# Altium footprint library PJ-072C-SMT-TR.PcbLib: 1 footprints
Each footprint in its own frame and in the unit in brackets; x right, y up, seen from the top. Pads: shape width x height; smd on the part's side, far side on the other; paste and mask are expansions set on the pad; w line width, h text height; cw(c..) or ccw(c..) is an arc to the next point about the centre after c.
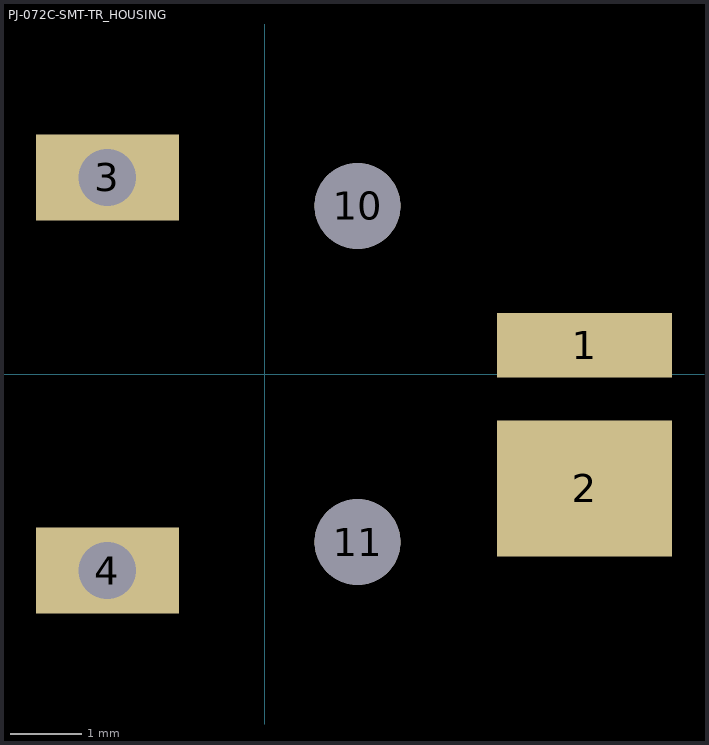
[diagram p0: the footprint, top view; thin cyan lines are the x and y axes]

## PJ-072C-SMT-TR_HOUSING [mm]
pads (6):
  rect 2.45x0.9 smd: 1(4.475,0.4)
  rect 2.45x1.9 smd: 2(4.475,-1.6)
  rect 2x1.2 hole 0.8 square: 3(-2.2,2.75) 4(-2.2,-2.75)
  round 1.2 hole 1.2 unplated paste+0 mask+0: 10(1.3,2.35) 11(1.3,-2.35)
3D body "pj-072c-smt.stp": height 4.85, standoff -0.9, extent -5.2,-2.9 5.2,2.9